# EAGLE library part TDA7313 (library TDA7313)
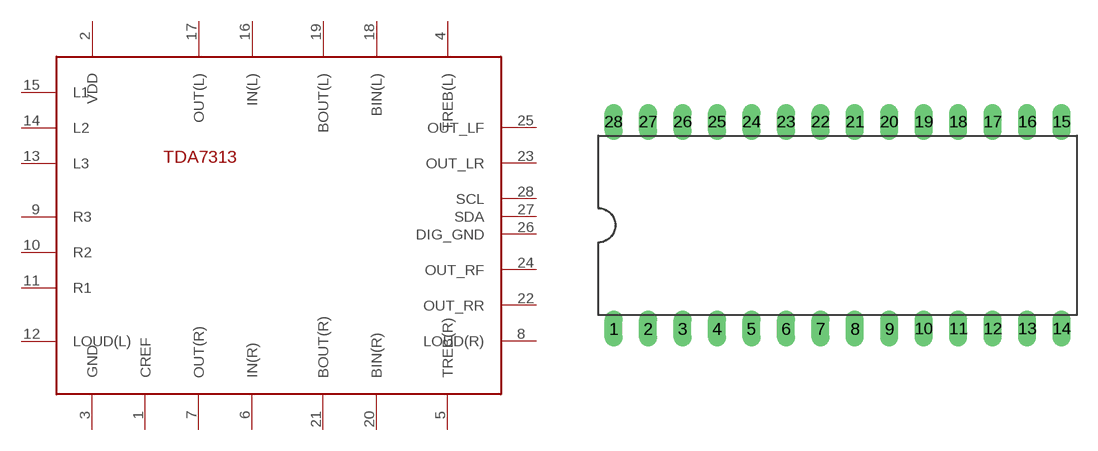
[diagram p0: symbol with the pads of DIP28; footprint DIP28]

Designator prefix -

## TDA7313  [DIP28]
1  CREF
2  VDD
3  GND
4  TREB(L)
5  TREB(R)
6  IN(R)
7  OUT(R)
8  LOUD(R)
9  R3
10  R2
11  R1
12  LOUD(L)
13  L3
14  L2
15  L1
16  IN(L)
17  OUT(L)
18  BIN(L)
19  BOUT(L)
20  BIN(R)
21  BOUT(R)
22  OUT_RR
23  OUT_LR
24  OUT_RF
25  OUT_LF
26  DIG_GND
27  SDA
28  SCL

## Footprint DIP28 (pad centres in mm)
drill 0.813 long: 1 -16.51,-7.62; 2 -13.97,-7.62; 3 -11.43,-7.62; 4 -8.89,-7.62; 5 -6.35,-7.62; 6 -3.81,-7.62; 7 -1.27,-7.62; 8 1.27,-7.62; 9 3.81,-7.62; 10 6.35,-7.62; 11 8.89,-7.62; 12 11.43,-7.62; 13 13.97,-7.62; 14 16.51,-7.62; 15 16.51,7.62; 16 13.97,7.62; 17 11.43,7.62; 18 8.89,7.62; 19 6.35,7.62; 20 3.81,7.62; 21 1.27,7.62; 22 -1.27,7.62; 23 -3.81,7.62; 24 -6.35,7.62; 25 -8.89,7.62; 26 -11.43,7.62; 27 -13.97,7.62; 28 -16.51,7.62